# EAGLE library part CY14B101LA-SP45XI (library Cypress_By_element14_Batch_1)
nvSRAM
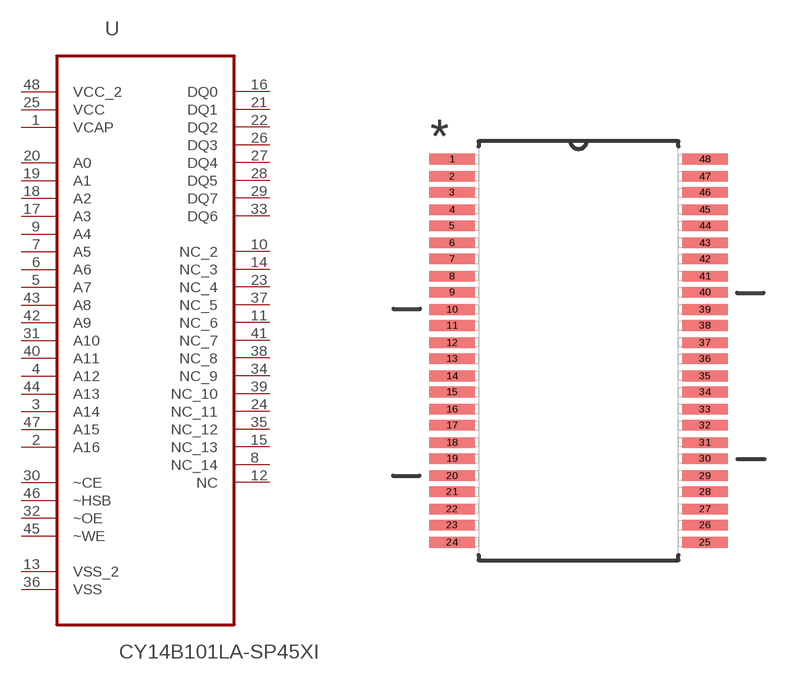
[diagram p0: symbol with the pads of SOP63P1035X279-48N; footprint SOP63P1035X279-48N]

Designator prefix U

## CY14B101LA-SP45XI (DESCRIPTION: nvSRAM; MPN: CY14B101LA-SP45XI; OC_FARNELL: 1895644; OC_NEWARK: 50R9173; PACKAGE: TSSOP-48; SUPPLIER: CYPRESS SEMICONDUCTOR)  [SOP63P1035X279-48N]
1  VCAP  pwr
2  A16  in
3  A14  in
4  A12  in
5  A7  in
6  A6  in
7  A5  in
8  NC_14  nc
9  A4  in
10  NC_2  nc
11  NC_6  nc
12  NC  nc
13  VSS_2  pwr
14  NC_3  nc
15  NC_13  nc
16  DQ0
17  A3  in
18  A2  in
19  A1  in
20  A0  in
21  DQ1
22  DQ2
23  NC_4  nc
24  NC_11  nc
25  VCC  pwr
26  DQ3
27  DQ4
28  DQ5
29  DQ7
30  ~CE  in
31  A10  in
32  ~OE  in
33  DQ6
34  NC_9  nc
35  NC_12  nc
36  VSS  pwr
37  NC_5  nc
38  NC_8  nc
39  NC_10  nc
40  A11  in
41  NC_7  nc
42  A9  in
43  A8  in
44  A13  in
45  ~WE  in
46  ~HSB
47  A15  in
48  VCC_2  pwr

## Footprint SOP63P1035X279-48N (pad centres in mm)
smd 1.727 x 0.406: 1 -4.826,7.315; 2 -4.826,6.655; 3 -4.826,6.045; 4 -4.826,5.385; 5 -4.826,4.775; 6 -4.826,4.115; 7 -4.826,3.505; 8 -4.826,2.845; 9 -4.826,2.235; 10 -4.826,1.575; 11 -4.826,0.965; 12 -4.826,0.305; 13 -4.826,-0.305; 14 -4.826,-0.965; 15 -4.826,-1.575; 16 -4.826,-2.235; 17 -4.826,-2.845; 18 -4.826,-3.505; 19 -4.826,-4.115; 20 -4.826,-4.775; 21 -4.826,-5.385; 22 -4.826,-6.045; 23 -4.826,-6.655; 24 -4.826,-7.315; 25 4.826,-7.315; 26 4.826,-6.655; 27 4.826,-6.045; 28 4.826,-5.385; 29 4.826,-4.775; 30 4.826,-4.115; 31 4.826,-3.505; 32 4.826,-2.845; 33 4.826,-2.235; 34 4.826,-1.575; 35 4.826,-0.965; 36 4.826,-0.305; 37 4.826,0.305; 38 4.826,0.965; 39 4.826,1.575; 40 4.826,2.235; 41 4.826,2.845; 42 4.826,3.505; 43 4.826,4.115; 44 4.826,4.775; 45 4.826,5.385; 46 4.826,6.045; 47 4.826,6.655; 48 4.826,7.315